# Altium footprint library shelby_temp.PcbLib: 8 footprints
Each footprint in its own frame and in the unit in brackets; x right, y up, seen from the top. Pads: shape width x height; smd on the part's side, far side on the other; paste and mask are expansions set on the pad; w line width, h text height; cw(c..) or ccw(c..) is an arc to the next point about the centre after c.
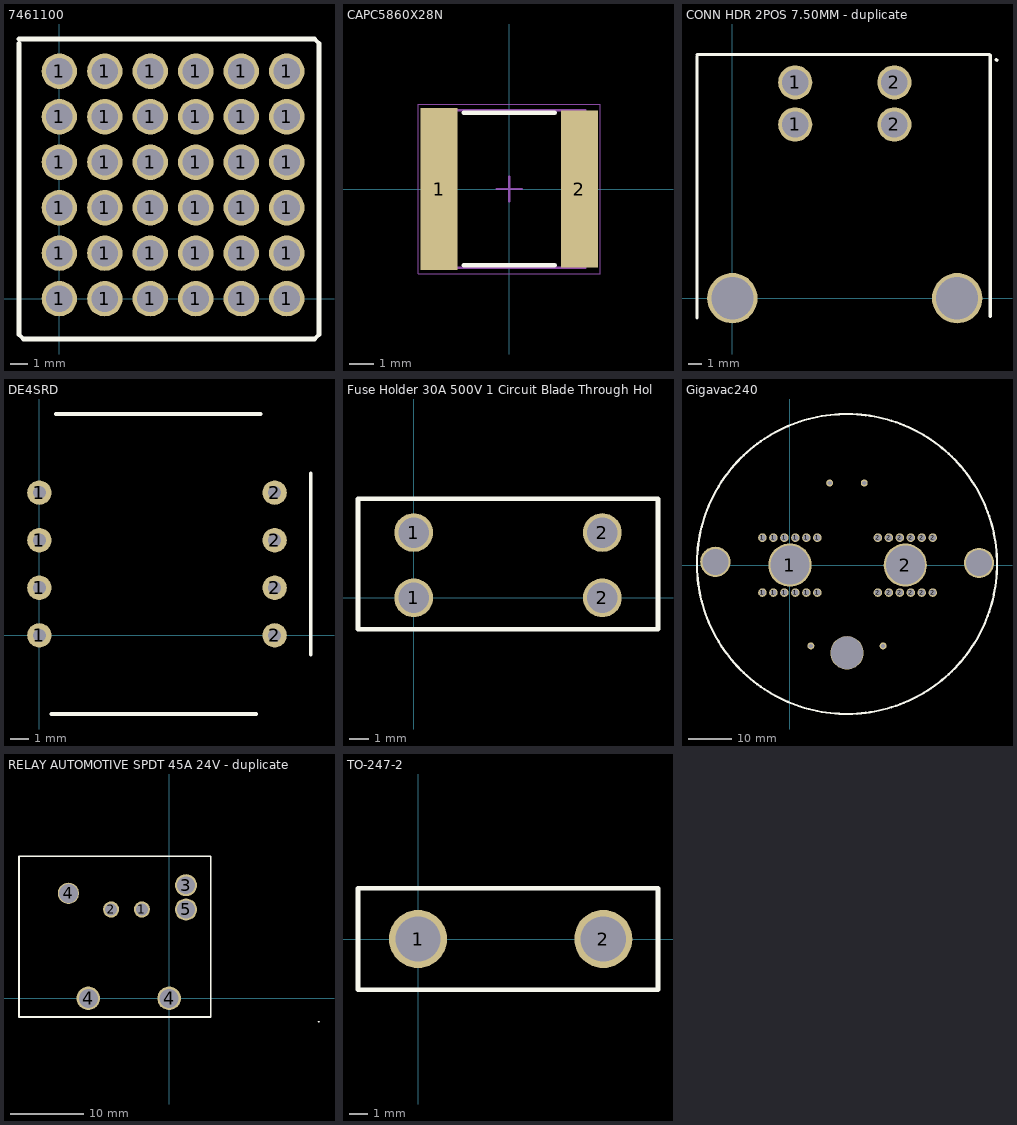
[diagram p0: the footprints below, top view; thin cyan lines are the x and y axes]

## 7461100 [mm]
pads (36):
  round 1.975 / inner round 1.6 / far side round 1.975 hole 1.475: 1(0,0) 1(0,2.54) 1(0,5.08) 1(0,7.62) 1(0,10.16) 1(0,12.7) 1(2.54,0) 1(2.54,2.54) 1(2.54,5.08) 1(2.54,7.62) 1(2.54,10.16) 1(2.54,12.7) 1(5.08,0) 1(5.08,2.54) 1(5.08,5.08) 1(5.08,7.62) 1(5.08,10.16) 1(5.08,12.7) 1(7.62,0) 1(7.62,2.54) 1(7.62,5.08) 1(7.62,7.62) 1(7.62,10.16) 1(7.62,12.7) 1(10.16,0) 1(10.16,2.54) 1(10.16,5.08) 1(10.16,7.62) 1(10.16,10.16) 1(10.16,12.7) 1(12.7,0) 1(12.7,2.54) 1(12.7,5.08) 1(12.7,7.62) 1(12.7,10.16) 1(12.7,12.7)
Top Overlay:
  lines w0.254: -2.25,14.25 -2.25,-2 -2,-2.25 14.25,-2.25 14.5,-2 14.5,14.25 14.25,14.5 -2.25,14.5
3D body "7461100 (rev1).stp": height 24, standoff -3.5, extent -1.75,-1.75 14.25,14.25

## CAPC5860X28N [mm] "Chip Capacitor, 2-Leads, Body 5.75x6.00mm, IPC Medium Density"
height 2.8
pads (2):
  rect 1.5x6.6 smd: 1(-2.85,0)
  rect 1.5x6.4 smd: 2(2.85,0)
Top Overlay:
  lines w0.2: -1.85,-3.1 1.85,-3.1 ; -1.85,3.1 1.85,3.1
Mechanical 13:
  lines w0.1: -3.1,-3.2 3.1,-3.2 3.1,3.2 -3.1,3.2 -3.1,-3.2
Mechanical 15:
  lines w0.05: -3.7,-3.45 3.7,-3.45 3.7,3.45 -3.7,3.45 -3.7,-3.45
  lines w0.1: -0.5,0 0.5,0 ; 0,-0.5 0,0.5
3D body "CAPC5860X28N.step": height 2.8, standoff 0, extent -3.1,-3.2 3.1,3.2

## CONN HDR 2POS 7.50MM - duplicate [mm]
pads (6):
  round 2.58 hole 1.98: 1(4.75,13.13) 1(4.75,16.31) 2(12.243,13.13) 2(12.243,16.31)
  round 3.81 hole 3.175: ""(0,0) ""(16.993,0)
Top Overlay:
  lines w0.254: -2.669,-1.492 -2.669,18.288 ; -2.667,18.415 19.431,18.415 ; 19.492,-1.365 19.492,18.354 ; 19.939,18.034 20,17.973
3D body "431605302.stp": height 15.12, standoff -3.6, extent -2.286,-3.048 18.796,16.739

## DE4SRD [mm]
pads (8):
  round 1.3 hole 0.7: 1(0,0) 1(0,2.54) 1(0,5.08) 1(0,7.62) 2(12.55,0) 2(12.55,2.54) 2(12.55,5.08) 2(12.55,7.62)
Top Overlay:
  lines w0.2: 0.635,-4.191 11.557,-4.191 ; 0.889,11.811 11.811,11.811 ; 14.478,-1.016 14.478,8.636
3D body: height 8.13, standoff -4.06, extent 4.699,5.08 4.699,5.08
3D body: height 8.13, standoff -4.06, extent 4.445,5.461 4.445,5.461
3D body "DE-4.STEP": height 10.6, standoff -4.6, extent -1.2,-3.7 13.8,11.3

## Fuse Holder 30A 500V 1 Circuit Blade Through Hole [mil]
pads (4):
  round 80 hole 63: 1(0,0) 1(0,135) 2(390,0) 2(390,135)
Top Overlay:
  lines w10: -115,-65 -115,37.5 -115,102.5 -115,205 505,205 505,147.5 505,61.25 505,2.5 505,-65 200,-65 -115,-65
3D body: height 290, standoff 110, extent -110,-60 505,200

## Gigavac240 [mm]
pads (33):
  round 1.975 / inner round 1.6 / far side round 1.975 hole 1.475: 1(-6.35,-6.35) 1(-6.35,6.35) 1(-3.81,-6.35) 1(-3.81,6.35) 1(-1.27,-6.35) 1(-1.27,6.35) 1(1.27,-6.35) 1(1.27,6.35) 1(3.81,-6.35) 1(3.81,6.35) 1(6.35,-6.35) 1(6.35,6.35) 2(20.35,-6.35) 2(20.35,6.35) 2(22.89,-6.35) 2(22.89,6.35) 2(25.43,-6.35) 2(25.43,6.35) 2(27.97,-6.35) 2(27.97,6.35) 2(30.51,-6.35) 2(30.51,6.35) 2(33.05,-6.35) 2(33.05,6.35)
  round 10 hole 9: 1(0,0) 2(26.7,0)
  round 1.6 hole 1: 3(4.85,-18.7) 4(21.55,-18.7) 5(9.2,19) 6(17.2,19)
  round 7 hole 6: ""(-17.25,0.762) ""(43.75,0.508)
  round 7.7 hole 7.5: ""(13.208,-20.3)
Top Overlay:
  circle w0.5: c13.208,0.254 r34.708
3D body "7462095 (rev1).stp": height 3.1, standoff -3.5, extent -8,-8 8,8
3D body "GV144_non aux_step_041217.STEP": height 59.41, standoff -5.56, extent -16.764,-29.718 43.18,30.226
3D body "7462095 (rev1).stp": height 3.1, standoff -3.5, extent 18.75,-8 34.75,8

## RELAY AUTOMOTIVE SPDT 45A 24V - duplicate [mm]
pads (7):
  round 2.2 hole 1.6: 1(-3.7,12.1) 2(-7.9,12.1)
  round 3 hole 2.4: 3(2.3,15.4) 5(2.3,12.1)
  round 2.896 hole 2.591: 4(-13.7,14.3)
  round 3.2 hole 2.591: 4(-11,0) 4(0,0)
Top Overlay:
  lines w0.254: 5.588,-2.54 -20.432,-2.54 -20.432,19.335 5.668,19.335 5.668,-2.54 ; 20.4,-3.175 20.32,-3.175 ; 20.32,-3.175 20.32,-3.175
3D body "1-1393277-8.stp": height 24.2, standoff 0, extent -20.385,-2.168 5.715,18.932

## TO-247-2 [mm]
pads (2):
  round 3.2 hole 2.5: 1(0,0) 2(10.2,0)
Top Overlay:
  lines w0.254: -3.302,-2.794 13.208,-2.794 13.208,2.794 -3.302,2.794 -3.302,-2.794
3D body "User Library-TO247-2.STEP": height 26, standoff -15.07, extent -3.022,-2.54 12.928,2.49